# Altium integrated library electromechanical.IntLib: 7 symbols
Pins are listed as number, name and electrical type; pins without a type are passive.

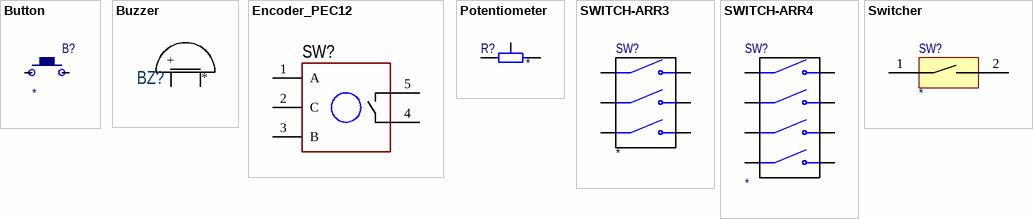
[diagram p0: symbols Button to Switcher]

## Button
designator B?
Button
footprint button
pins: 1, 2

## Buzzer
designator BZ?
footprint BUZ: AI-1223-TWT-3V-2-R
footprint BUZ: AT-0927-TT-6-R
footprint BUZ: CMT-7525
pins: 1 +, 2 -

## Encoder_PEC12
designator SW?
Manufacturer: Bourns; ValueManufacturerPartNumber: Quadrature encoder, PEC12R; PartNumber: PEC12R-4115F-S0012; TypeEncoder: Quadrature encoder; SeriesEncoder: PEC12R; HelpURL: https://www.digikey.com/product-detail/en/bourns-inc/PEC12R-4115F-S0012/PEC12R-4115F-S0012-ND/6153386
footprint ENC: PEC-12
pins: 1 A, 2 C, 3 B, 4, 5

## Potentiometer
designator R?
Potentiometer; Order: VARRES *** ***; IsSMT: NoSMT; LCSC Part #: *; BuyLink1: *; Value: *
footprint Potentiometer1 (Potentiometer 2,54)
footprint Potentiometer2 (Potentiometer 5,08)
footprint Potentiometer3 (Potentiometer 5,08 vertical)
footprint 3296W-1-203LF
pins: 1, 2, 3

## SWITCH-ARR3
designator SW?
SWITCH-3; IsSMT: NoSMT
footprint DIP-SWITCH-3
pins: 1 IN1, 2 OUT1, 3 IN2, 4 OUT2, 5 IN3, 6 OUT3

## SWITCH-ARR4
designator SW?
SWITCH-4; IsSMT: NoSMT
footprint DIP-SWITCH-3
pins: 1 IN1, 2 OUT1, 3 IN2, 4 OUT2, 5 IN3, 6 OUT3, 7 IN4, 8 OUT4

## Switcher
designator SW?
Switcher; IsSMT: NoSMT
footprint SMD_SWITCHER
pins: 1, 2